# Altium schematic symbol library Bosch_Sensortec.SchLib: 1 symbol
Pins are listed as number, name and electrical type; pins without a type are passive.

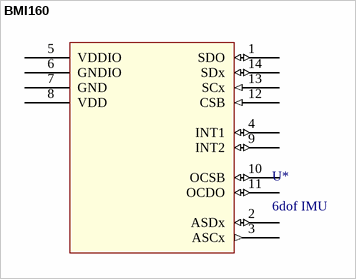
[diagram p0: symbol BMI160]

## BMI160
designator U*, comment 6dof IMU
The  BMI160  is  a  highly  integrated,  low  power  inertial  measurement  unit  (IMU)  that  provides / precise acceleration and angular rate (gyroscopic) measurement.; ComponentLink1Description: Product description; ComponentLink1URL: https://www.bosch-sensortec.com/bst/products/all_products/bmi160
footprint PQFN50P300X250X70-14N (PQFN, 14-Leads, Body 3,00x2,50mm, Pitch 0,50mm, IPC Medium Density)
pins: 1 SDO (io) "Serial data output in SPI, Address select in I2C mode.", 2 ASDx (io) "Magnetometer interface", 3 ASCx (out) "Magnetometer interface", 4 INT1 (io) "Interrupt pin 1", 5 VDDIO (power) "Digital I/O supply voltage (1.2 ... 3.6V)", 6 GNDIO (power) "Ground for I/O", 7 GND (power) "Ground for digital & analog", 8 VDD (power) "Power supply digital & analog domain (1.7 ... 3.6V)", 9 INT2 (io) "Interrupt pin 2", 10 OCSB (io) "OIS interface", 11 OCDO (io) "OIS interface", 12 CSB (in) "Chip select for SPI mode / Protocol select pin", 13 SCx (in) "SCK for SPI serial clock, SCL for I²C serial cloc", 14 SDx (io) "SDA serial data I/O in I2C, MOSI serial data input in SPI 4W, SISO serial data I/O in SPI 3W"